# Altium schematic symbol library IRLL014TRPBF-BE3.SchLib: 1 symbol
Pins are listed as number, name and electrical type; pins without a type are passive.

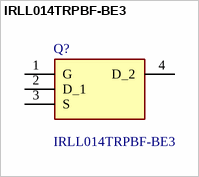
[diagram p0: symbol IRLL014TRPBF-BE3]

## IRLL014TRPBF-BE3
designator Q?
MOSFETs SOT223  60V  2.7A N-CH MOSFET; Manufacturer_Name: Vishay; Geometry.Height: 1.8mm; Mouser Part Number: 78-IRLL014TRPBF-BE3; Mouser Price/Stock: https://www.mouser.co.uk/ProductDetail/Vishay-Siliconix/IRLL014TRPBF-BE3?qs=7MVldsJ5Uax3AjFs2mI6iQ%3D%3D; Manufacturer_Part_Number: IRLL014TRPBF-BE3; Datasheet Link: https://www.vishay.com/docs/91319/sihll014.pdf
footprint SOT230P700X180-4N
pins: 1 G, 2 D_1, 3 S, 4 D_2